# Altium schematic symbol library 1150T ANTENNA.SchLib: 1 symbol
Pins are listed as number, name and electrical type; pins without a type are passive.

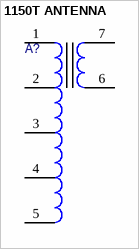
[diagram p0: symbol 1150T ANTENNA]

## 1150T ANTENNA
designator A?  (value not drawn)
pins: 1 *, 2 *, 3, 4, 5, 6, 7